# EAGLE library part PINHD-LHS (library kyle)
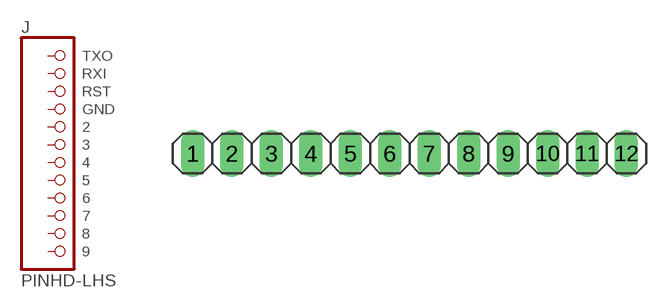
[diagram p1: symbol with the pads of 1X12; footprint 1X12]

Designator prefix J

## PINHD-LHS  [1X12]
1  TXO  pas
2  RXI  pas
3  RST  pas
4  GND  pas
5  2  pas
6  3  pas
7  4  pas
8  5  pas
9  6  pas
10  7  pas
11  8  pas
12  9  pas

## Footprint 1X12 (pad centres in mm)
PIN HEADER
drill 1.016 long: 1 -13.97,0; 2 -11.43,0; 3 -8.89,0; 4 -6.35,0; 5 -3.81,0; 6 -1.27,0; 7 1.27,0; 8 3.81,0; 9 6.35,0; 10 8.89,0; 11 11.43,0; 12 13.97,0